# EAGLE library part AM7200 (library fifo)
FIFO
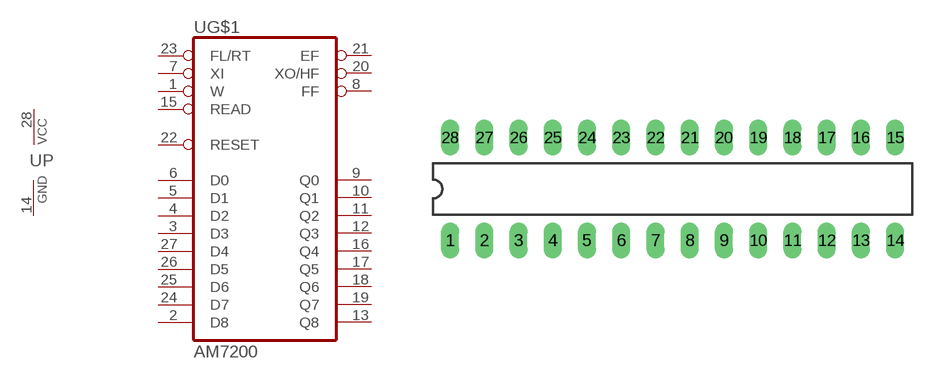
[diagram p0: symbol with the pads of DIL28-3; footprint DIL28-3]

Designator prefix U; gates G$1=AM7200 P=PWRN

## AM7200  [DIL28-3]
1  G$1:W  in
2  G$1:D8  in
3  G$1:D3  in
4  G$1:D2  in
5  G$1:D1  in
6  G$1:D0  in
7  G$1:XI  in
8  G$1:FF  out
9  G$1:Q0  out
10  G$1:Q1  out
11  G$1:Q2  out
12  G$1:Q3  out
13  G$1:Q8  out
14  P:GND  pwr
15  G$1:READ  in
16  G$1:Q4  out
17  G$1:Q5  out
18  G$1:Q6  out
19  G$1:Q7  out
20  G$1:XO/HF  out
21  G$1:EF  out
22  G$1:RESET  in
23  G$1:FL/RT  in
24  G$1:D7  in
25  G$1:D6  in
26  G$1:D5  in
27  G$1:D4  in
28  P:VCC  pwr

## Footprint DIL28-3 (pad centres in mm)
Dual In Line Package Small
drill 0.813 long: 1 -16.51,-3.81; 2 -13.97,-3.81; 3 -11.43,-3.81; 4 -8.89,-3.81; 5 -6.35,-3.81; 6 -3.81,-3.81; 7 -1.27,-3.81; 8 1.27,-3.81; 9 3.81,-3.81; 10 6.35,-3.81; 11 8.89,-3.81; 12 11.43,-3.81; 13 13.97,-3.81; 14 16.51,-3.81; 15 16.51,3.81; 16 13.97,3.81; 17 11.43,3.81; 18 8.89,3.81; 19 6.35,3.81; 20 3.81,3.81; 21 1.27,3.81; 22 -1.27,3.81; 23 -3.81,3.81; 24 -6.35,3.81; 25 -8.89,3.81; 26 -11.43,3.81; 27 -13.97,3.81; 28 -16.51,3.81